# Altium schematic symbol library IND,22nH,640mA,Wirewound,0603.Schlib: 1 symbol
Pins are listed as number, name and electrical type; pins without a type are passive.

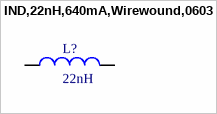
[diagram p0: symbol IND,22nH,640mA,Wirewound,0603]

## IND,22nH,640mA,Wirewound,0603
designator L?, comment 22nH
22nH Unshielded Wirewound Inductor 640mA 99mOhm Max 0603 (1608 Metric)
pins: 1, 2